# EAGLE library part JW5222 (library JW5222)
The JW® 5222 is a current mode monolithic buck switching regulator. Operating with an input range of 2.5V-6V, the JW5222 delivers 2.5A of continuous output current with integrated P-Channel and N-Channel MOSFETs
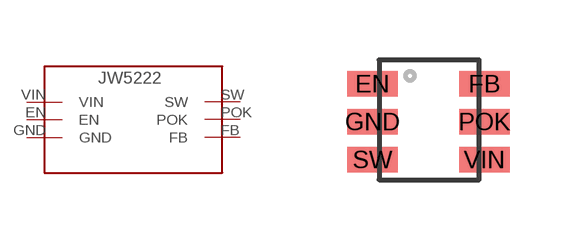
[diagram p0: symbol with the pads of JW5222; footprint JW5222]

Designator prefix -

## JW5222  [JW5222]
EN  EN
FB  FB
GND  GND
POK  POK
SW  SW
VIN  VIN

## Footprint JW5222 (pad centres in mm)
smd 1.27 x 0.635: EN -1.27,0; FB 1.53,0; GND -1.27,-0.95; POK 1.53,-0.95; SW -1.27,-1.9; VIN 1.53,-1.9